# Altium footprint library ECAP_Radial.PcbLib: 3 footprints
Each footprint in its own frame and in the unit in brackets; x right, y up, seen from the top. Pads: shape width x height; smd on the part's side, far side on the other; paste and mask are expansions set on the pad; w line width, h text height; cw(c..) or ccw(c..) is an arc to the next point about the centre after c.
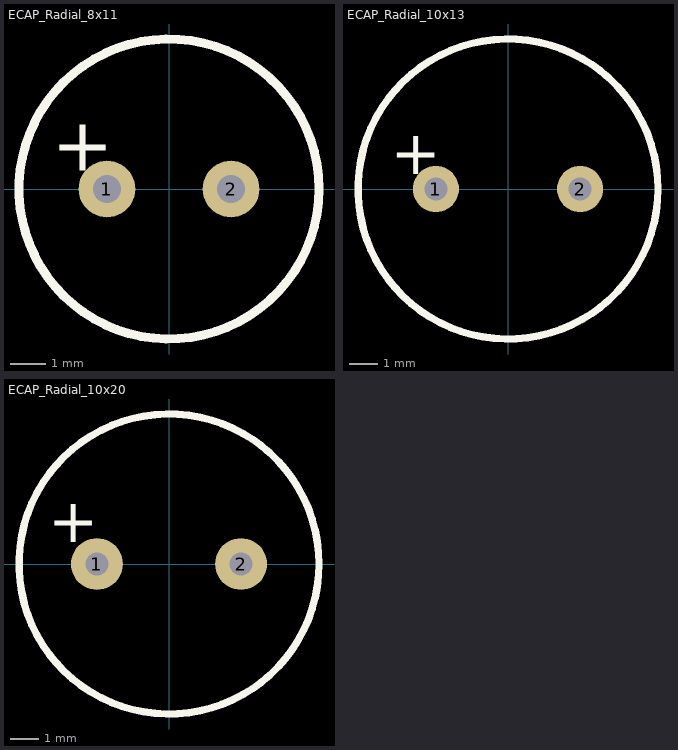
[diagram p0: the footprints below, top view; thin cyan lines are the x and y axes]

## ECAP_Radial_8x11 [mm]
height 12
pads (2):
  round 1.6 hole 0.8: 1(-1.75,0) 2(1.75,0)
Top Overlay:
  circle w0.254: c0,0 r4.23
  text "+" at -3.302,0.508 h1.52
3D body "ECAP_8mmx11mm.STEP": height 13, standoff -3, extent -4.25,-4.247 4.25,4.247

## ECAP_Radial_10x13 [mm]
height 14
pads (2):
  round 1.6 hole 0.8: 1(-2.5,0) 2(2.5,0)
Top Overlay:
  circle w0.254: c0,0 r5.2
  text "+" at -4.064,0.508 h1.52
3D body "ECAP_10mmx13mm.STEP": height 14, standoff -3, extent -5.25,-5.249 5.25,5.249

## ECAP_Radial_10x20 [mm]
pads (2):
  round 1.8 hole 0.8: 1(-2.5,0) 2(2.5,0)
Top Overlay:
  circle w0.254: c0,0 r5.2
  text "+" at -4.191,0.762 h1.52
3D body "ECAP_10x20_radial.step": height 20.32, standoff -2.9, extent -5.08,-5.08 5.08,5.08